# EAGLE library part CAS-D20TA (library CAS-D20TA)
Slide Switch SPDT x 2 Surface Mount Check prices <https://pricing.snapeda.com/parts/CAS-D20TA/Nidec%20Copal/view-part?ref=eda>
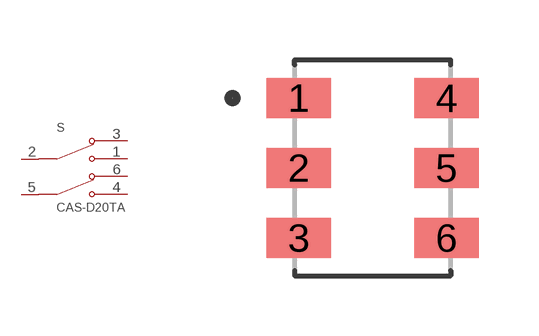
[diagram p0: symbol with the pads of SW_CAS-D20TA; footprint SW_CAS-D20TA]

Designator prefix S

## CAS-D20TA (Availability: In Stock; Description: Slide Switch SPDT x 2 Surface Mount; MF: Nidec Copal; MP: CAS-D20TA; Package: None; Price: None)  [SW_CAS-D20TA]
1  1  pas
2  2  pas
3  3  pas
4  4  pas
5  5  pas
6  6  pas

## Footprint SW_CAS-D20TA (pad centres in mm)
smd 1.6 x 1: 1 -1.85,1.75; 2 -1.85,0; 3 -1.85,-1.75; 4 1.85,1.75; 5 1.85,0; 6 1.85,-1.75